# Altium integrated library FFC.IntLib: 1 symbol
Pins are listed as number, name and electrical type; pins without a type are passive.

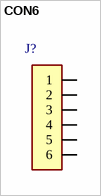
[diagram p0: symbol CON6]

## CON6
designator J?, comment 0532610671  (value not drawn)
ID: 0532610671; PDF: http://www.molex.com/pdm_docs/sd/532610671_sd.pdf; PRICE: 1.65000; BUY_LINK: http://www.digikey.com/product-detail/en/0532610671/WM7624CT-ND/699111
footprint FFC_6PIN
pins: 1, 2, 3, 4, 5, 6